# Altium footprint library Motor_Driver_Pcb.PcbLib: 1 footprints
Each footprint in its own frame and in the unit in brackets; x right, y up, seen from the top. Pads: shape width x height; smd on the part's side, far side on the other; paste and mask are expansions set on the pad; w line width, h text height; cw(c..) or ccw(c..) is an arc to the next point about the centre after c.
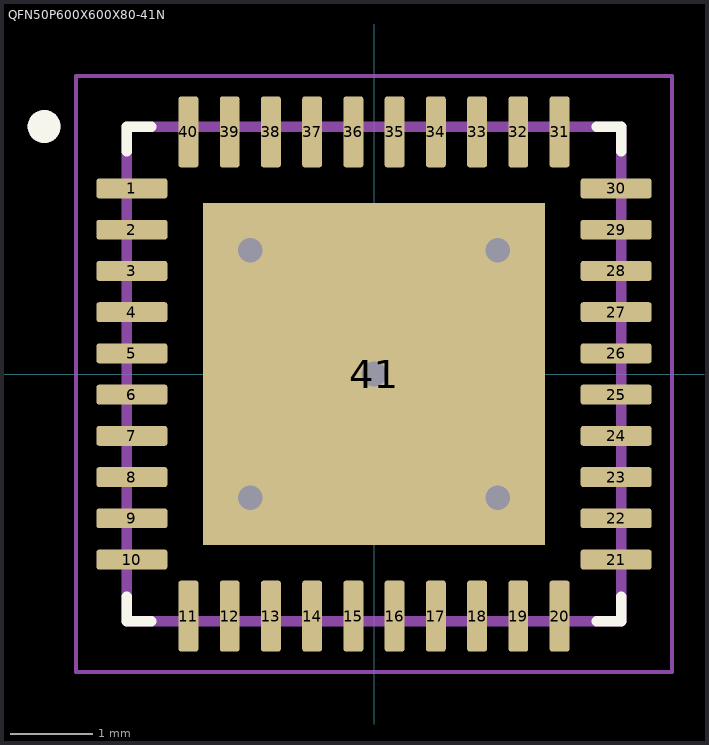
[diagram p0: the footprint, top view; thin cyan lines are the x and y axes]

## QFN50P600X600X80-41N [mm]
pads (41):
  rrect25% 0.86x0.24 smd: 1(-2.935,2.25) 2(-2.935,1.75) 3(-2.935,1.25) 4(-2.935,0.75) 5(-2.935,0.25) 6(-2.935,-0.25) 7(-2.935,-0.75) 8(-2.935,-1.25) 9(-2.935,-1.75) 10(-2.935,-2.25) 21(2.935,-2.25) 22(2.935,-1.75) 23(2.935,-1.25) 24(2.935,-0.75) 25(2.935,-0.25) 26(2.935,0.25) 27(2.935,0.75) 28(2.935,1.25) 29(2.935,1.75) 30(2.935,2.25)
  rrect25% 0.24x0.86 smd: 11(-2.25,-2.935) 12(-1.75,-2.935) 13(-1.25,-2.935) 14(-0.75,-2.935) 15(-0.25,-2.935) 16(0.25,-2.935) 17(0.75,-2.935) 18(1.25,-2.935) 19(1.75,-2.935) 20(2.25,-2.935) 31(2.25,2.935) 32(1.75,2.935) 33(1.25,2.935) 34(0.75,2.935) 35(0.25,2.935) 36(-0.25,2.935) 37(-0.75,2.935) 38(-1.25,2.935) 39(-1.75,2.935) 40(-2.25,2.935)
  rect 4.15x4.15 smd paste-3: 41(0,0)
via -1.5,1.5 diameter 0.6 hole 0.3
via 1.5,1.5 diameter 0.6 hole 0.3
via 0,0 diameter 0.6 hole 0.3
via -1.5,-1.5 diameter 0.6 hole 0.3
via 1.5,-1.5 diameter 0.6 hole 0.3
Top Overlay:
  circle w0.2: c-4,3 r0.1
  lines w0.127: -3,-2.7 -3,-3 -2.7,-3 ; -3,2.7 -3,3 -2.7,3 ; 2.7,-3 3,-3 3,-2.7 ; 2.7,3 3,3 3,2.7
Top Paste:
  region: 1.705,-1.705 0.385,-1.705 0.385,-0.385 1.705,-0.385
  region: -0.375,-1.705 -1.695,-1.705 -1.695,-0.385 -0.375,-0.385
  region: 1.705,0.375 0.385,0.375 0.385,1.695 1.705,1.695
  region: -0.375,0.375 -1.695,0.375 -1.695,1.695 -0.375,1.695
Mechanical 13:
  circle w0.2: c-4,3 r0.1
  lines w0.127: -3,-3 -3,3 3,3 3,-3 -3,-3
  text ".designator" at -2.667,-0.353 h1.5
Mechanical 15:
  lines w0.05: -3.615,-3.615 -3.615,3.615 3.615,3.615 3.615,-3.615 -3.615,-3.615
3D body "step_temp.STEP": height 0.8, standoff 0, extent -3,-3 3,3